# EAGLE library part E5J88-00AJG2-L (library RJ45)
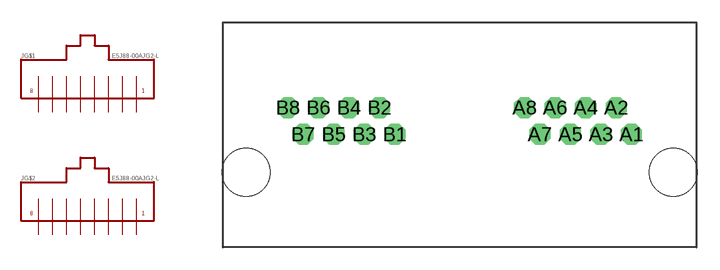
[diagram p1: symbol with the pads of E5J88-00AJG2-L; footprint E5J88-00AJG2-L]

Designator prefix J; gates G$1=RJ45 G$2=RJ45

## E5J88-00AJG2-L  [E5J88-00AJG2-L]
A1  G$1:1  pas
A2  G$1:2  pas
A3  G$1:3  pas
A4  G$1:4  pas
A5  G$1:5  pas
A6  G$1:6  pas
A7  G$1:7  pas
A8  G$1:8  pas
B1  G$2:1  pas
B2  G$2:2  pas
B3  G$2:3  pas
B4  G$2:4  pas
B5  G$2:5  pas
B6  G$2:6  pas
B7  G$2:7  pas
B8  G$2:8  pas

## Footprint E5J88-00AJG2-L (pad centres in mm)
drill 0.9 octagon: A1 11.47,2.54; A2 10.45,4.32; A3 9.43,2.54; A4 8.41,4.32; A5 7.39,2.54; A6 6.37,4.32; A7 5.35,2.54; A8 4.33,4.32; B1 -4.33,2.54; B2 -5.35,4.32; B3 -6.37,2.54; B4 -7.39,4.32; B5 -8.41,2.54; B6 -9.43,4.32; B7 -10.45,2.54; B8 -11.47,4.32
hole 3.2 at 14.25,0
hole 3.2 at -14.25,0